# Altium footprint library 613 0xx 210 21.PcbLib: 18 footprints (part 2 of 2)
Each footprint in its own frame and in the unit in brackets; x right, y up, seen from the top. Pads: shape width x height; smd on the part's side, far side on the other; paste and mask are expansions set on the pad; w line width, h text height; cw(c..) or ccw(c..) is an arc to the next point about the centre after c.
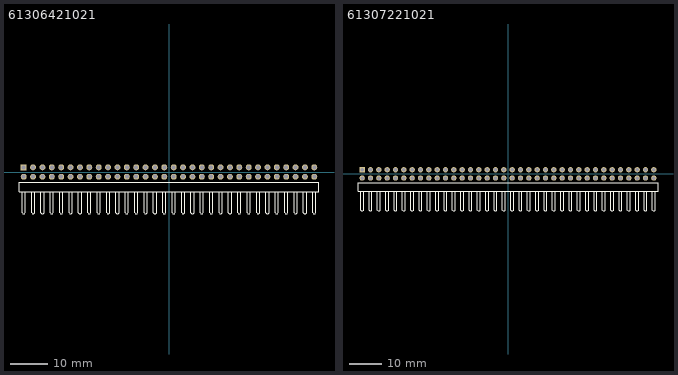
[diagram p1: the footprints below, top view; thin cyan lines are the x and y axes]

## 61306421021 [mm] "64 pins, dual row, right angled, gold plating"
height 5.08
pads (64):
  rect 1.6x1.6 hole 1.1: 1(-39.37,1.27)
  round 1.6 hole 1.1: 2(-36.83,1.27) 3(-34.29,1.27) 4(-31.75,1.27) 5(-29.21,1.27) 6(-26.67,1.27) 7(-24.13,1.27) 8(-21.59,1.27) 9(-19.05,1.27) 10(-16.51,1.27) 11(-13.97,1.27) 12(-11.43,1.27) 13(-8.89,1.27) 14(-6.35,1.27) 15(-3.81,1.27) 16(-1.27,1.27) 17(1.27,1.27) 18(3.81,1.27) 19(6.35,1.27) 20(8.89,1.27) 21(11.43,1.27) 22(13.97,1.27) 23(16.51,1.27) 24(19.05,1.27) 25(21.59,1.27) 26(24.13,1.27) 27(26.67,1.27) 28(29.21,1.27) 29(31.75,1.27) 30(34.29,1.27) 31(36.83,1.27) 32(39.37,1.27) 33(-39.37,-1.27) 34(-36.83,-1.27) 35(-34.29,-1.27) 36(-31.75,-1.27) 37(-29.21,-1.27) 38(-26.67,-1.27) 39(-24.13,-1.27) 40(-21.59,-1.27) 41(-19.05,-1.27) 42(-16.51,-1.27) 43(-13.97,-1.27) 44(-11.43,-1.27) 45(-8.89,-1.27) 46(-6.35,-1.27) 47(-3.81,-1.27) 48(-1.27,-1.27) 49(1.27,-1.27) 50(3.81,-1.27) 51(6.35,-1.27) 52(8.89,-1.27) 53(11.43,-1.27) 54(13.97,-1.27) 55(16.51,-1.27) 56(19.05,-1.27) 57(21.59,-1.27) 58(24.13,-1.27) 59(26.67,-1.27) 60(29.21,-1.27) 61(31.75,-1.27) 62(34.29,-1.27) 63(36.83,-1.27) 64(39.37,-1.27)
Top Overlay:
  drawing of 196 lines, arcs and shapes, not listed
3D body "61306421021.stp": height 5.09, standoff -2.99, extent -40.64,-11.376 40.64,1.524

## 61307221021 [mm] "72 pins, dual row, right angled, gold plating"
height 5.08
pads (72):
  rect 1.6x1.6 hole 1.1: 1(-44.45,1.27)
  round 1.6 hole 1.1: 2(-41.91,1.27) 3(-39.37,1.27) 4(-36.83,1.27) 5(-34.29,1.27) 6(-31.75,1.27) 7(-29.21,1.27) 8(-26.67,1.27) 9(-24.13,1.27) 10(-21.59,1.27) 11(-19.05,1.27) 12(-16.51,1.27) 13(-13.97,1.27) 14(-11.43,1.27) 15(-8.89,1.27) 16(-6.35,1.27) 17(-3.81,1.27) 18(-1.27,1.27) 19(1.27,1.27) 20(3.81,1.27) 21(6.35,1.27) 22(8.89,1.27) 23(11.43,1.27) 24(13.97,1.27) 25(16.51,1.27) 26(19.05,1.27) 27(21.59,1.27) 28(24.13,1.27) 29(26.67,1.27) 30(29.21,1.27) 31(31.75,1.27) 32(34.29,1.27) 33(36.83,1.27) 34(39.37,1.27) 35(41.91,1.27) 36(44.45,1.27) 37(-44.45,-1.27) 38(-41.91,-1.27) 39(-39.37,-1.27) 40(-36.83,-1.27) 41(-34.29,-1.27) 42(-31.75,-1.27) 43(-29.21,-1.27) 44(-26.67,-1.27) 45(-24.13,-1.27) 46(-21.59,-1.27) 47(-19.05,-1.27) 48(-16.51,-1.27) 49(-13.97,-1.27) 50(-11.43,-1.27) 51(-8.89,-1.27) 52(-6.35,-1.27) 53(-3.81,-1.27) 54(-1.27,-1.27) 55(1.27,-1.27) 56(3.81,-1.27) 57(6.35,-1.27) 58(8.89,-1.27) 59(11.43,-1.27) 60(13.97,-1.27) 61(16.51,-1.27) 62(19.05,-1.27) 63(21.59,-1.27) 64(24.13,-1.27) 65(26.67,-1.27) 66(29.21,-1.27) 67(31.75,-1.27) 68(34.29,-1.27) 69(36.83,-1.27) 70(39.37,-1.27) 71(41.91,-1.27) 72(44.45,-1.27)
Top Overlay:
  drawing of 220 lines, arcs and shapes, not listed
3D body "61307221021.stp": height 5.09, standoff -2.99, extent -45.72,-11.376 45.72,1.524